# Altium footprint library otto.PcbLib: 14 footprints
Each footprint in its own frame and in the unit in brackets; x right, y up, seen from the top. Pads: shape width x height; smd on the part's side, far side on the other; paste and mask are expansions set on the pad; w line width, h text height; cw(c..) or ccw(c..) is an arc to the next point about the centre after c.
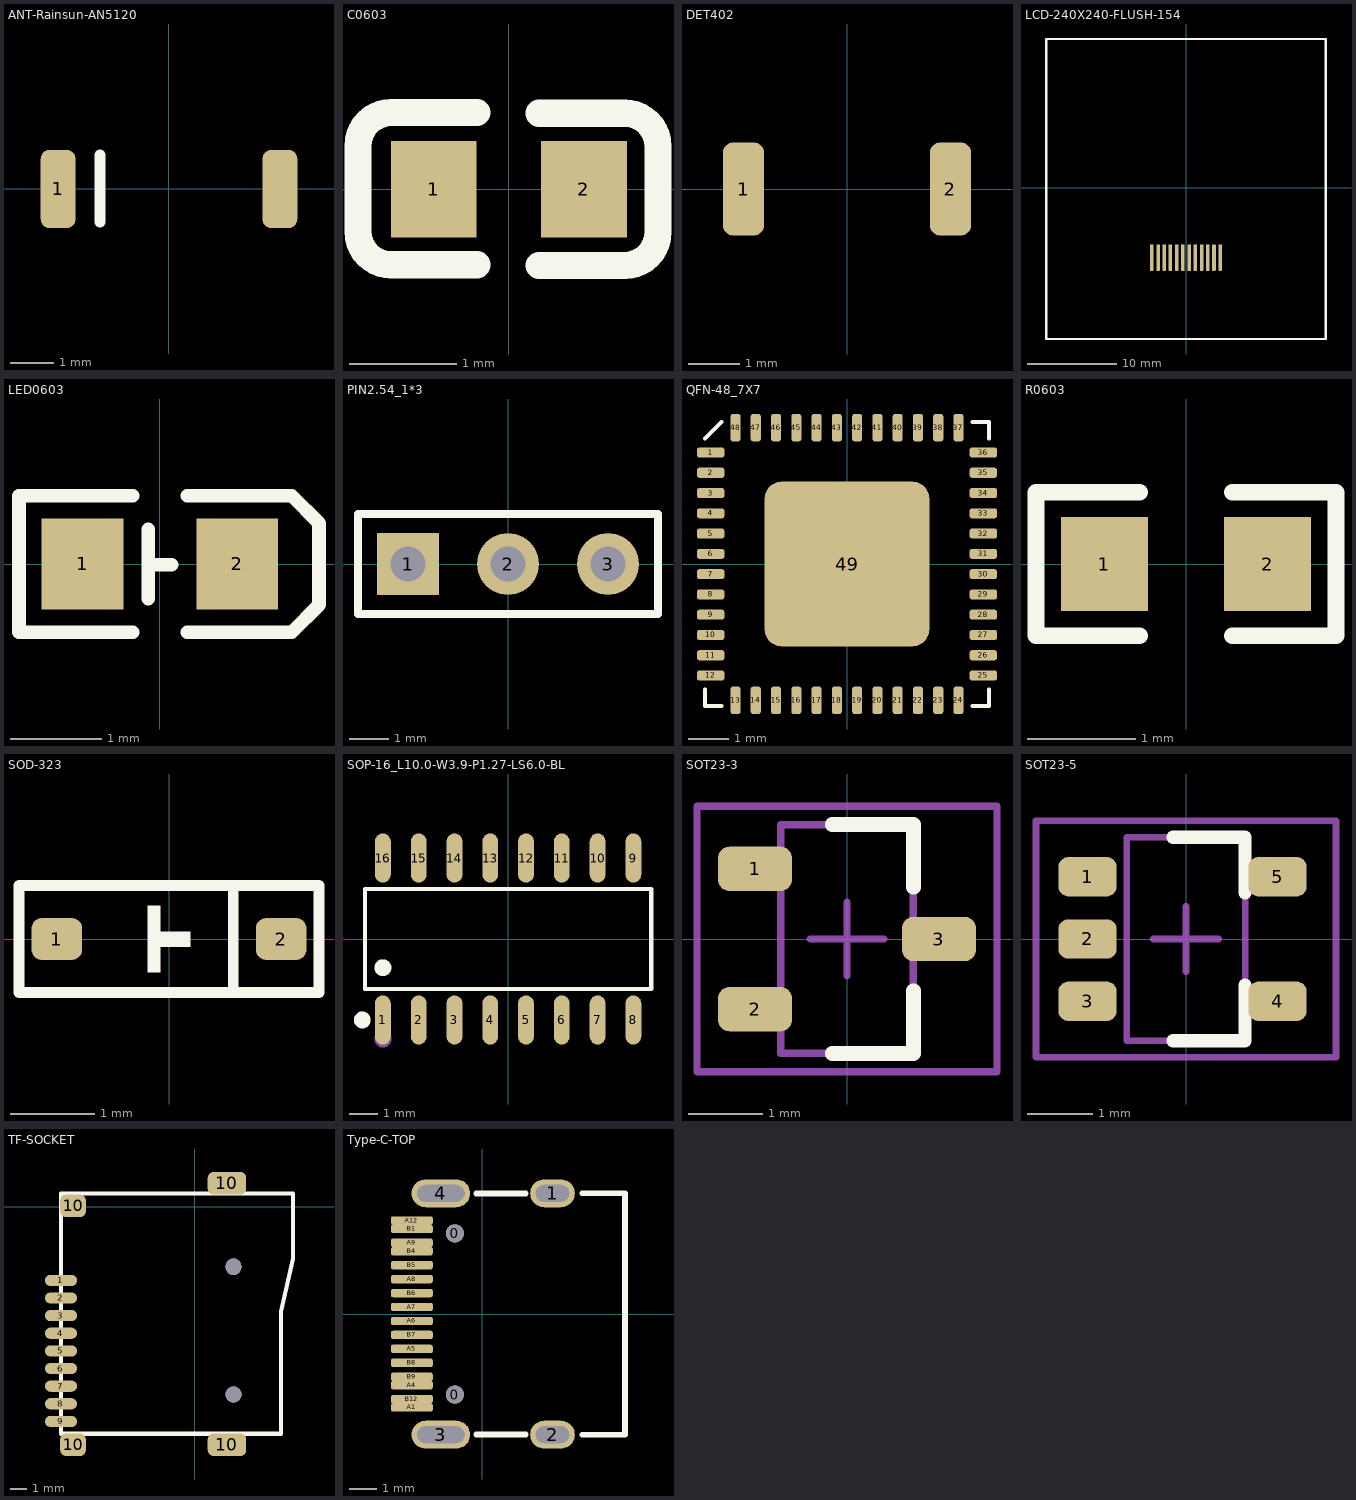
[diagram p0: the footprints below, top view; thin cyan lines are the x and y axes]

## ANT-Rainsun-AN5120 [mm] "选择焊盘"
height 4.3
pads (2):
  rrect50% 0.8x1.8 smd: 1(-2.54,0) ""(2.563,0)
Top Overlay:
  lines w0.254: -1.575,-0.762 -1.575,0.787
3D body "123.stp": height 1.32, standoff -0.01, extent -2.573,-0.911 2.542,0.935

## C0603 [mm]
pads (2):
  rect 0.8x0.9 smd: 1(-0.7,0) 2(0.7,0)
Top Overlay:
  lines w0.254: -0.296,-0.704 -1.096,-0.704 cw(c-1.096,-0.394) -1.406,-0.394 -1.405,0.406 cw(c-1.096,0.406) -1.096,0.715 -0.296,0.715 ; 0.28,-0.71 1.08,-0.71 ccw(c1.08,-0.4) 1.39,-0.4 1.39,0.4 ccw(c1.08,0.4) 1.08,0.71 0.28,0.71
3D body "c0603.stp": height 0.9, standoff 0, extent -0.8,-0.405 0.8,0.405

## DET402 [mm]
height 4.3
pads (2):
  rrect50% 0.8x1.8 smd: 1(-2,0) 2(2,0)
3D body "User Library-DET402.STEP": height 2.03, standoff -0.02, extent -2.451,-1.5 2.44,1.5

## LCD-240X240-FLUSH-154 [mm]
height 0.8
pads (12):
  rrect50% 0.4x3 smd: 1(3.851,-7.85) 2(3.151,-7.85) 3(2.451,-7.85) 4(1.751,-7.85) 5(1.051,-7.85) 6(0.351,-7.85) 7(-0.349,-7.85) 8(-1.049,-7.85) 9(-1.749,-7.85) 10(-2.449,-7.85) 11(-3.149,-7.85) 12(-3.849,-7.85)
Top Overlay:
  lines w0.254: -15.748,-17.018 -15.748,16.764 15.748,16.764 15.748,-17.018 -15.748,-17.018
3D body "1.54 TFT IPS - 12P - Flat Flush Mount.stp": height -0.37, standoff -1.9, extent -15.697,-17.018 15.697,16.764

## LED0603 [mm]
pads (2):
  rect 0.9x1 smd: 1(-0.85,0) 2(0.85,0)
Top Overlay:
  lines w0.15: -1.55,-0.75 -0.3,-0.75 ; -1.55,-0.75 -1.55,0.73 ; -1.55,0.75 -0.3,0.75 ; -0.127,-0.381 -0.127,0.381 ; -0.127,-0.006 0.127,-0.006 ; 0.3,-0.75 1.45,-0.75 1.75,-0.45 1.75,-0.35 1.75,0.35 1.75,0.45 1.45,0.75 0.3,0.75
Mechanical 15:
  region: -1.1,0.1 -0.5,0.1 -0.5,-0.05 -1.1,-0.05
  region: 0.6,0.1 1.2,0.1 1.2,-0.05 0.6,-0.05
  region: -0.865,-0.273 -0.865,0.327 -0.715,0.327 -0.715,-0.273
3D body "LED0603.SLDPRT": height 0.68, standoff 0, extent -0.843,-0.368 0.807,0.357

## PIN2.54_1*3 [mil]
pads (3):
  rect 62x62 hole 35: 1(-100,0)
  round 62 hole 35: 2(0,0) 3(100,0)
Top Overlay:
  lines w7.99: -75,50 150,50
  lines w8: -75,50 -150,50 -150,-50 150,-50 150,50

## QFN-48_7X7 [mm]
height 4.3
pads (49):
  rrect50% 0.675x0.25 smd: 1(-3.363,2.75) 2(-3.363,2.25) 3(-3.363,1.75) 4(-3.363,1.25) 5(-3.363,0.75) 6(-3.363,0.25) 7(-3.363,-0.25) 8(-3.363,-0.75) 9(-3.363,-1.25) 10(-3.363,-1.75) 11(-3.363,-2.25) 12(-3.363,-2.75) 25(3.363,-2.75) 26(3.363,-2.25) 27(3.363,-1.75) 28(3.363,-1.25) 29(3.363,-0.75) 30(3.363,-0.25) 31(3.363,0.25) 32(3.363,0.75) 33(3.363,1.25) 34(3.363,1.75) 35(3.363,2.25) 36(3.363,2.75)
  rrect50% 0.25x0.675 smd: 13(-2.75,-3.363) 14(-2.25,-3.363) 15(-1.75,-3.363) 16(-1.25,-3.363) 17(-0.75,-3.363) 18(-0.25,-3.363) 19(0.25,-3.363) 20(0.75,-3.363) 21(1.25,-3.363) 22(1.75,-3.363) 23(2.25,-3.363) 24(2.75,-3.363) 37(2.75,3.363) 38(2.25,3.363) 39(1.75,3.363) 40(1.25,3.363) 41(0.75,3.363) 42(0.25,3.363) 43(-0.25,3.363) 44(-0.75,3.363) 45(-1.25,3.363) 46(-1.75,3.363) 47(-2.25,3.363) 48(-2.75,3.363)
  rrect20% 4.064x4.064 smd: 49(0,0)
Top Overlay:
  lines w0.1: -3.5,-3.1 -3.5,-3.5 -3.1,-3.5 ; -3.5,3.1 -3.1,3.5 ; 3.1,-3.5 3.5,-3.5 3.5,-3.1 ; 3.1,3.5 3.5,3.5 3.5,3.1
3D body: height 1, standoff 0.05, extent -3.5,-3.5 3.5,3.5

## R0603 [mm]
pads (2):
  rect 0.806x0.864 smd: 1(-0.753,0) 2(0.753,0)
Top Overlay:
  lines w0.152: -0.426,-0.661 -1.385,-0.661 -1.385,0.661 -0.426,0.661 ; 0.426,-0.661 1.385,-0.661 1.385,0.661 0.426,0.661
Top Paste:
  region: 1.195,0.45 0.395,0.45 0.345,0.4 0.345,0.172 0.715,0.172 0.715,-0.158 0.345,-0.158 0.345,-0.4 0.395,-0.45 1.195,-0.45 1.245,-0.4 1.245,0.4
  region: -0.355,0.4 -0.355,0.172 -0.735,0.172 -0.735,-0.158 -0.355,-0.158 -0.355,-0.4 -0.405,-0.45 -1.195,-0.45 -1.245,-0.4 -1.245,0.4 -1.195,0.45 -0.405,0.45
3D body "RESISTOR 0603.SLDPRT": height 0.48, standoff -0.03, extent -0.8,-0.43 0.8,0.43

## SOD-323 [mm]
height 4.3
pads (2):
  rrect50% 0.6x0.5 smd: 1(-1.329,0) 2(1.329,0)
Top Overlay:
  region: -0.254,0.394 -0.102,0.394 -0.102,0.089 0.254,0.089 0.254,-0.089 -0.102,-0.089 -0.102,-0.394 -0.254,-0.394
  lines w0.127: 0.762,-0.635 0.762,0.635 ; -1.778,-0.635 -1.778,0.635 1.778,0.635 1.778,-0.635 -1.778,-0.635
3D body "SW3dPS-SOD-323.STEP": height 1.15, standoff 0.05, extent -1.3,-0.675 1.3,0.675

## SOP-16_L10.0-W3.9-P1.27-LS6.0-BL [mm]
pads (16):
  oval 0.56x1.745 smd: 1(-4.445,-2.873) 2(-3.175,-2.873) 3(-1.905,-2.873) 4(-0.635,-2.873) 5(0.635,-2.873) 6(1.905,-2.873) 7(3.175,-2.873) 8(4.445,-2.873) 9(4.445,2.873) 10(3.175,2.873) 11(1.905,2.873) 12(0.635,2.873) 13(-0.635,2.873) 14(-1.905,2.873) 15(-3.175,2.873) 16(-4.445,2.873)
Top Overlay:
  circle w0.3: c-5.177,-2.872 r0.15
  circle w0.3: c-4.445,-1.019 r0.15
  lines w0.152: -5.076,-1.771 5.076,-1.771 5.076,1.771 -5.076,1.771 -5.076,-1.771
Mechanical 15:
  circle w0.3: c-4.445,-3.55 r0.15
3D body "User Library-CH340C.sldprt": height 1.58, standoff 0, extent -5.015,-3.123 4.966,3.112

## SOT23-3 [mm] "SOT23, 3-Leads, Body 3.1x3.0mm (max), Pitch 0.95mm, IPC Medium Density"
height 1.2
pads (3):
  rrect50% 1x0.6 smd: 1(-1.246,0.95) 2(-1.246,-0.95) 3(1.246,0)
Top Overlay:
  lines w0.2: -0.2,-1.55 0.9,-1.55 0.9,-0.7 ; -0.2,1.55 0.9,1.55 0.9,0.7
Mechanical 13:
  lines w0.1: -0.9,-1.55 -0.9,1.55 0.9,1.55 0.9,-1.55 -0.9,-1.55
Mechanical 15:
  lines w0.1: -0.5,0 0.5,0 ; 0,-0.5 0,0.5 ; -2.032,-1.8 -2.032,1.8 2.032,1.8 2.032,-1.8 -2.032,-1.8
3D body "SOT-23-3.stp": height 1.2, standoff 0, extent -1.298,-1.45 1.502,1.45

## SOT23-5 [mm] "SOT23, 3-Leads, Body 3.1x3.0mm (max), Pitch 0.95mm, IPC Medium Density"
height 1.2
pads (5):
  rrect50% 0.889x0.6 smd: 1(-1.5,0.95) 2(-1.5,0) 3(-1.5,-0.95) 4(1.396,-0.95) 5(1.396,0.95)
Top Overlay:
  lines w0.2: -0.2,-1.55 0.9,-1.55 0.9,-0.7 ; -0.2,1.55 0.9,1.55 0.9,0.7
Mechanical 13:
  lines w0.1: -0.9,-1.55 -0.9,1.55 0.9,1.55 0.9,-1.55 -0.9,-1.55
Mechanical 15:
  lines w0.1: -0.5,0 0.5,0 ; 0,-0.5 0,0.5 ; -2.286,-1.8 -2.286,1.8 2.286,1.8 2.286,-1.8 -2.286,-1.8
3D body "PCB1.stp": height 1.2, standoff 0, extent -1.476,-1.452 1.324,1.448

## TF-SOCKET [mm]
height 4.3
pads (13):
  oval 2x0.7 smd: 1(-8.331,-4.582) 2(-8.331,-5.682) 3(-8.331,-6.782) 4(-8.331,-7.882) 5(-8.331,-8.982) 6(-8.331,-10.082) 7(-8.331,-11.182) 8(-8.331,-12.282) 9(-8.331,-13.382)
  rrect50% 1.6x1.4 smd: 10(-7.577,-14.836) 10(-7.577,0.068)
  rrect50% 2.4x1.4 smd: 10(2.023,-14.836) 10(2.023,1.476)
via 2.423,-3.732 diameter 1 hole 1
via 2.423,-11.712 diameter 1 hole 1
Top Overlay:
  lines w0.254: -8.331,-14.148 -8.331,0.838 6.147,0.838 6.147,-3.226 5.385,-6.528 5.385,-14.148 -8.331,-14.148
3D body "123.stp": height 2.05, standoff 0.07, extent -8.871,-14.809 8.179,1.291

## Type-C-TOP [mm]
height 4.3
pads (22):
  round 0.65 hole 0.65: 0(-0.98,-2.89) 0(-0.98,2.89)
  oval 1.6x1 hole 0.6 slot 1.2 at 0 deg: 1(2.52,4.325) 2(2.52,-4.325)
  oval 2.1x1 hole 0.6 slot 1.7 at 0 deg: 3(-1.48,-4.325) 4(-1.48,4.325)
  rrect50% 1.5x0.3 smd: A1(-2.52,-3.35) A4(-2.52,-2.55) A5(-2.52,-1.25) A6(-2.52,-0.25) A7(-2.52,0.25) A8(-2.52,1.25) A9(-2.52,2.55) A12(-2.52,3.35) B1(-2.52,3.05) B4(-2.52,2.25) B5(-2.52,1.75) B6(-2.52,0.75) B7(-2.52,-0.75) B8(-2.52,-1.75) B9(-2.52,-2.25) B12(-2.52,-3.05)
Top Overlay:
  lines w0.203: -0.218,-4.318 1.56,-4.318 ; -0.218,4.318 1.56,4.318 ; 3.592,-4.325 5.12,-4.325 5.12,4.325 3.592,4.325
3D body "1.step": height 3.26, standoff -1, extent -2.568,-4.475 5.182,4.475